# EAGLE library part 8T14 (library dec-con)
IBM Receiver
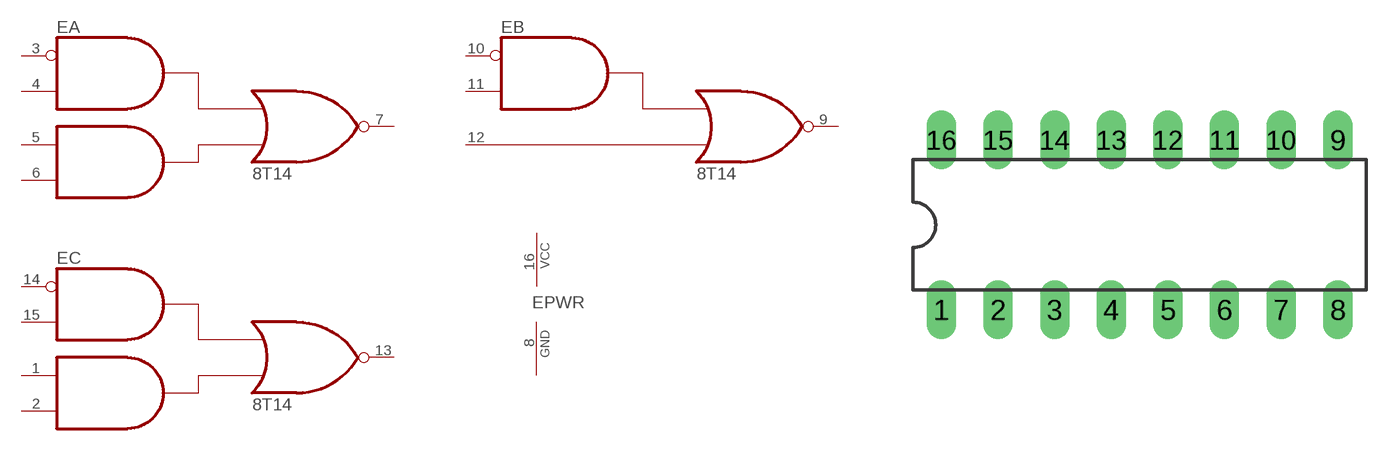
[diagram p56: symbol with the pads of DIL16; footprint DIL16]

Designator prefix E; gates A=8T14A C=8T14A B=8T14B PWR=PWRN

## 8T14  [DIL16]
1  C:I1  in
2  C:I2  in
3  A:R  in
4  A:S  in
5  A:I1  in
6  A:I2  in
7  A:O  out
8  PWR:GND  pwr
9  B:O  out
10  B:R  in
11  B:S  in
12  B:I1  in
13  C:O  out
14  C:R  in
15  C:S  in
16  PWR:VCC  pwr

## Footprint DIL16 (pad centres in mm)
Dual In Line Package
drill 0.813 long: 1 -8.89,-3.81; 2 -6.35,-3.81; 3 -3.81,-3.81; 4 -1.27,-3.81; 5 1.27,-3.81; 6 3.81,-3.81; 7 6.35,-3.81; 8 8.89,-3.81; 9 8.89,3.81; 10 6.35,3.81; 11 3.81,3.81; 12 1.27,3.81; 13 -1.27,3.81; 14 -3.81,3.81; 15 -6.35,3.81; 16 -8.89,3.81